# Altium schematic symbol library LM2596S-12_NOPB.SchLib: 1 symbol
Pins are listed as number, name and electrical type; pins without a type are passive.

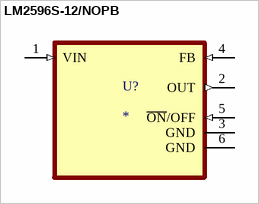
[diagram p0: symbol LM2596S-12/NOPB]

## LM2596S-12/NOPB
designator U?
SIMPLE SWITCHERÂ® 4.5V to 40V, 3A Low Component Count Step-Down Regulator; MF: Texas Instruments; MP: LM2596S-12/NOPB; SnapEDA_Link: https://www.snapeda.com/parts/LM2596S-12/NOPB/Texas+Instruments/view-part/?ref=snap; Package: TO-263-5 Texas Instruments; Value: *; Check_prices: https://www.snapeda.com/parts/LM2596S-12/NOPB/Texas+Instruments/view-part/?ref=eda
footprint VREG_LM2596S-12/NOPB
pins: 1 VIN (in), 2 OUT (out), 3 GND (power), 4 FB (in), 5 ~{ON}/OFF (in), 6 GND (power)